# Altium schematic symbol library MCP_family.SchLib: 5 symbols
Pins are listed as number, name and electrical type; pins without a type are passive.

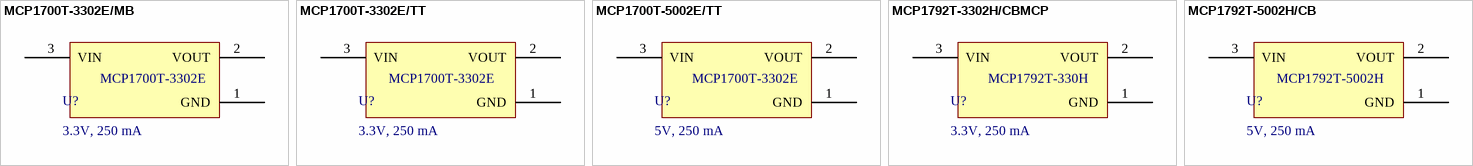
[diagram p0: symbols MCP1700T-3302E/MB to MCP1792T-5002H/CB]

## MCP1700T-3302E/MB
designator U?, comment 3.3V, 250 mA
LDO Voltage Regulators 250mA Adj LDO 2%; Manufacturer: Microchip Technology; Manufacturer Part Number: MCP1700T-3302E/MB; Voltage Input: 6; Mounting Technology: SMD; Current Input: N/A; Voltage Output: 3.3V; Current Output: 250mA; ComponentLink1Description: Datasheet link; ComponentLink1URL: https://www.mouser.com/datasheet/2/268/MCP1700_Data_Sheet_20001826F-737536.pdf; ComponentLink2Description: Supplier 1 URL; ComponentLink2URL: N/A; ComponentLink3Description: Supplier 2 URL; ComponentLink3URL: N/A; ComponentLink4Description: Supplier 3 URL; ComponentLink4URL: N/A; Supplier 1 Name: Mouser; Supplier 1 SN: 579-MCP1700T3302E/MB; Supplier 1 URL: https://www.mouser.com/ProductDetail/Microchip-Technology/MCP1700T-3302E-MB?qs=WWgnj3qycfnlJJhwyn%2Fifw%3D%3D; Supplier 2 Name: Digi-Key; Supplier 2 SN: MCP1700T3302EMBTR-ND; Supplier 2 URL: https://www.digikey.com/en/products/detail/microchip-technology/MCP1700T-3302E-MB/652678; Supplier 3 Name: thegioiic; Supplier 3 SN: N/A; Supplier 3 URL: https://www.thegioiic.com/mcp1700t-3302e-mb-ic-on-ap-3-3v-250ma; Value: 3.3V, 250 mA
footprint MCP1700T-3302E/MB (SOT89, 3-Leads, Body 4.50x2.21mm, Pitch 1.50mm, Lead Span 4.1mm)
pins: 1 GND (power), 2 VOUT (power), 3 VIN (power)
text: MCP1700T-3302E

## MCP1700T-3302E/TT
designator U?, comment 3.3V, 250 mA
Linear Voltage Regulator IC Positive Fixed 1 Output 250mA SOT-23-3; Manufacturer: Microchip Technology; Manufacturer Part Number: MCP1700T-3302E/TT; Voltage Input: 6V; Mounting Technology: SMD; Current Input: N/A; Voltage Output: 3.3V; Current Output: 250mA; ComponentLink1Description: Datasheet link; ComponentLink1URL: https://www.mouser.com/datasheet/2/268/MCP1700_Data_Sheet_20001826F-737536.pdf; ComponentLink2Description: Supplier 1 URL; ComponentLink2URL: N/A; ComponentLink3Description: Supplier 2 URL; ComponentLink3URL: N/A; ComponentLink4Description: Supplier 3 URL; ComponentLink4URL: N/A; Supplier 1 Name: Mouser; Supplier 1 SN: 579-MCP1700T3302E/TT; Supplier 1 URL: https://www.mouser.com/ProductDetail/Microchip-Technology/MCP1700T-3302E-TT?qs=fM4xO01eazPmCNDrdHEdaw%3D%3D; Supplier 2 Name: Digi-Key; Supplier 2 SN: MCP1700T3302ETTTR-ND; Supplier 2 URL: https://www.digikey.com/en/products/detail/microchip-technology/MCP1700T-3302E-TT/652676; Supplier 3 Name: thegioiic; Supplier 3 SN: N/A; Supplier 3 URL: https://www.thegioiic.com/mcp1700t-3302e-ic-on-ap-3-3v-250ma; Value: 3.3V, 250 mA
footprint MCP1700T-3302E/TT (SOT23, 3-Leads, Body 2.86x2.37mm, Pitch 0.95mm)
pins: 1 GND (power), 2 VOUT (power), 3 VIN (power)
text: MCP1700T-3302E

## MCP1700T-5002E/TT
designator U?, comment 5V, 250 mA
IC REG LINEAR 5V 250MA SOT23-3; Manufacturer: Microchip Technology; Manufacturer Part Number: MCP1700T-5002E/TT; Voltage Input: 6; Mounting Technology: SMD; Current Input: N/A; Voltage Output: 5V; Current Output: 250mA; ComponentLink1Description: Datasheet link; ComponentLink1URL: https://www.mouser.com/datasheet/2/268/MCP1700_Data_Sheet_20001826F-737536.pdf; ComponentLink2Description: Supplier 1 URL; ComponentLink2URL: N/A; ComponentLink3Description: Supplier 2 URL; ComponentLink3URL: N/A; ComponentLink4Description: Supplier 3 URL; ComponentLink4URL: N/A; Supplier 1 Name: Mouser; Supplier 1 SN: 579-MCP1700T5002E/TT; Supplier 1 URL: https://www.mouser.com/ProductDetail/Microchip-Technology/MCP1700T-5002E-TT?qs=fM4xO01eazNr4AnStMRB%2Fg%3D%3D; Supplier 2 Name: Digi-Key; Supplier 2 SN: MCP1700T5002ETTTR-ND; Supplier 2 URL: https://www.digikey.com/en/products/detail/microchip-technology/MCP1700T-5002E-TT/652681; Supplier 3 Name: thegioiic; Supplier 3 SN: N/A; Supplier 3 URL: https://www.thegioiic.com/mcp1700t-5002e-mb-ic-on-ap-5v-250ma; Value: 5V, 250 mA
footprint MCP1700T-5002E/TT (SOT23, 3-Leads, Body 2.86x2.37mm, Pitch 0.95mm)
pins: 1 GND (power), 2 VOUT (power), 3 VIN (power)
text: MCP1700T-3302E

## MCP1792T-3302H/CBMCP
designator U?, comment 3.3V, 250 mA
LDO Voltage Regulators High input voltage regulator 3.3V 3Ld SOT-23A TR.; Manufacturer: Microchip Technology; Manufacturer Part Number: MCP1792T-3302H/CB; Voltage Input: 4.5V - 55V; Current Output: 100mA; Mounting Technology: SMD; Current Input: N/A; Voltage Output: 3.3V; ComponentLink1Description: Datasheet link; ComponentLink1URL: https://www.mouser.com/datasheet/2/268/MCP1792_Family_Data_Sheet_DS20006229D-2891803.pdf; ComponentLink2Description: Supplier 1 URL; ComponentLink2URL: N/A; ComponentLink3Description: Supplier 2 URL; ComponentLink3URL: N/A; ComponentLink4Description: Supplier 3 URL; ComponentLink4URL: N/A; Supplier 1 Name: Mouser; Supplier 1 SN: 579-MCP1792T-3302HCB; Supplier 1 URL: https://www.mouser.com/ProductDetail/Microchip-Technology/MCP1792T-3302H-CB?qs=mAH9sUMRCtsJR7ybQ6HmQA%3D%3D; Supplier 2 Name: Digi-Key; Supplier 2 SN: MCP1792T-3302H/CBTR-ND; Supplier 2 URL: https://www.digikey.com/en/products/detail/microchip-technology/MCP1792T-3302H-CB/10297921; Supplier 3 Name: thegioiic; Supplier 3 SN: N/A; Supplier 3 URL: N/A; Value: 3.3V, 250 mA
footprint MCP1792T-3302H/CB (SOT23, 3-Leads, Body 2.90x2.55mm, Pitch 0.95mm)
pins: 1 GND (power), 2 VOUT (power), 3 VIN (power)
text: MCP1792T-330H

## MCP1792T-5002H/CB
designator U?, comment 5V, 250 mA
LDO Voltage Regulators High input voltage regulator 5.0 V 3Ld SOT-23A TR; Manufacturer: Microchip Technology; Manufacturer Part Number: MCP1792T-5002H/CB; Voltage Input: 4.5V - 55V; Current Output: 100mA; Mounting Technology: SMD; Current Input: N/A; Voltage Output: 5V; ComponentLink1Description: Datasheet link; ComponentLink1URL: https://www.mouser.com/datasheet/2/268/MCP1792_Family_Data_Sheet_DS20006229D-2891803.pdf; ComponentLink2Description: Supplier 1 URL; ComponentLink2URL: N/A; ComponentLink3Description: Supplier 2 URL; ComponentLink3URL: N/A; ComponentLink4Description: Supplier 3 URL; ComponentLink4URL: N/A; Supplier 1 Name: Mouser; Supplier 1 SN: 579-MCP1792T-5002HCB; Supplier 1 URL: https://www.mouser.com/ProductDetail/Microchip-Technology/MCP1792T-5002H-CB?qs=mAH9sUMRCtuAXaaRege0yg%3D%3D; Supplier 2 Name: Digi-Key; Supplier 2 SN: MCP1792T-5002H/CBTR-ND; Supplier 2 URL: https://www.digikey.com/en/products/detail/microchip-technology/MCP1792T-5002H-CB/10297923; Supplier 3 Name: thegioiic; Supplier 3 SN: N/A; Supplier 3 URL: N/A; Value: 5V, 250 mA
footprint MCP1792T-5002HCB (SOT23, 3-Leads, Body 2.90x2.55mm, Pitch 0.95mm)
pins: 1 GND (power), 2 VOUT (power), 3 VIN (power)
text: MCP1792T-5002H